# Altium footprint library SMC.PcbLib: 1 footprints
Each footprint in its own frame and in the unit in brackets; x right, y up, seen from the top. Pads: shape width x height; smd on the part's side, far side on the other; paste and mask are expansions set on the pad; w line width, h text height; cw(c..) or ccw(c..) is an arc to the next point about the centre after c.
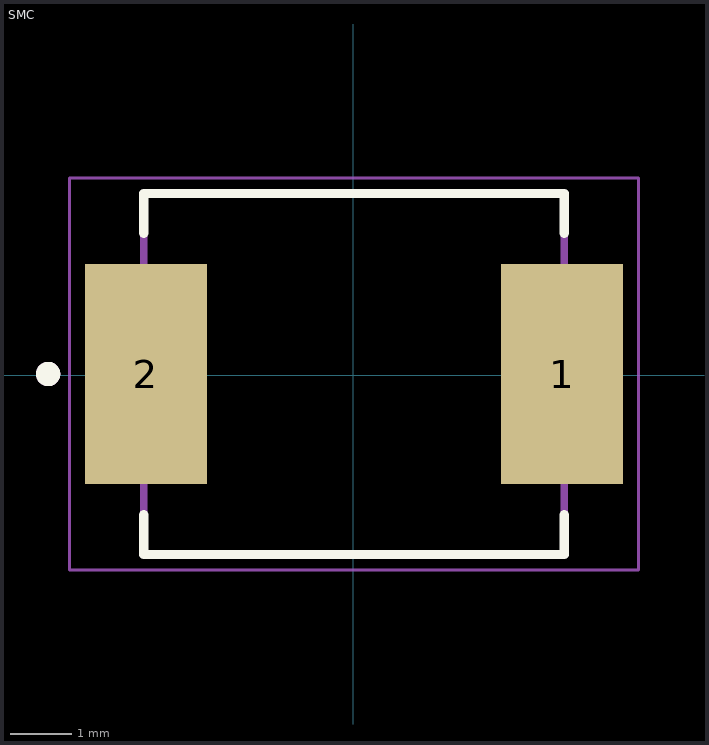
[diagram p0: the footprint, top view; thin cyan lines are the x and y axes]

## SMC [mm]
pads (2):
  rect 2x3.6 smd: 1(3.415,0.021) 2(-3.385,0.021)
Top Overlay:
  circle w0.2: c-4.985,0.021 r0.1
  lines w0.15: -3.422,-2.279 -3.422,-2.929 3.453,-2.929 3.453,-2.279 ; -3.422,2.321 -3.422,2.971 3.453,2.971 3.453,2.321
Mechanical 13:
  circle w0.2: c-4.985,0.021 r0.1
  lines w0.127: -3.422,-2.929 3.453,-2.929 3.453,2.971 -3.422,2.971 -3.422,-2.929
Mechanical 15:
  lines w0.05: -4.635,-3.179 4.665,-3.179 4.665,3.221 -4.635,3.221 -4.635,-3.179
3D body "step_temp.STEP": height 2.65, standoff 0, extent -3.96,-2.929 3.99,2.971